# EAGLE library part MOTHER-BOARD-REV5_PIN-CONNECTOR (library Mother-Board-rev5)
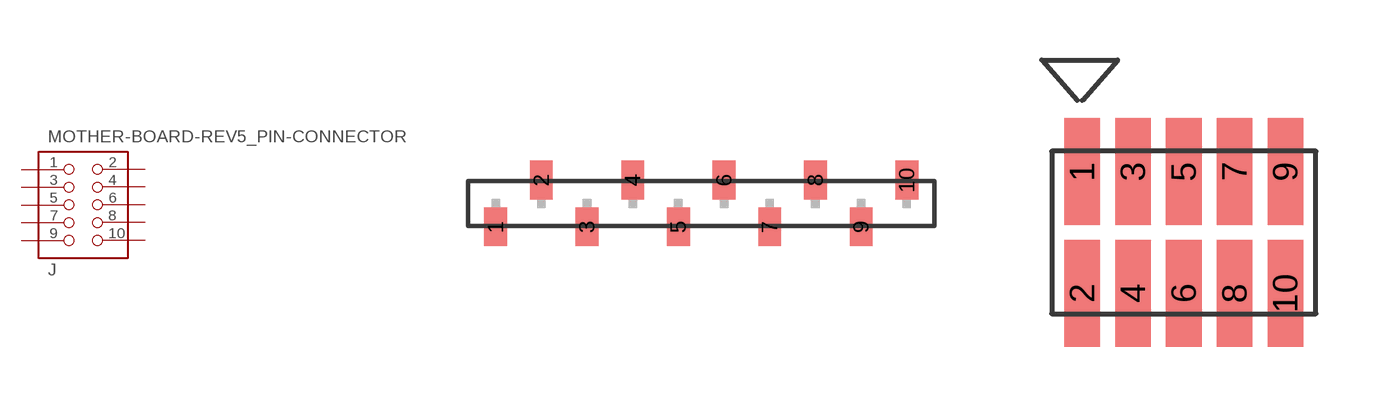
[diagram p4: symbol with the pads of MOTHER-BOARD-REV5_74099-10; footprints MOTHER-BOARD-REV5_74099-10, MOTHER-BOARD-REV5_10-PIN-SMD]

Designator prefix J

## MOTHER-BOARD-REV5_PIN-CONNECTOR  [MOTHER-BOARD-REV5_74099-10]
1  P$1  sup
2  P$2  sup
3  P$3  sup
4  P$4  sup
5  P$5  sup
6  P$6  sup
7  P$7  sup
8  P$8  sup
9  P$9  sup
10  P$10  sup

## MOTHER-BOARD-REV5_PIN-CONNECTOR74089  [MOTHER-BOARD-REV5_10-PIN-SMD]
Pads as for MOTHER-BOARD-REV5_74099-10

## Footprint MOTHER-BOARD-REV5_74099-10 (pad centres in mm)
C-Grid SL Connector vertical SMD, 10 pin
smd 1.27 x 2.15: 1 -11.43,-1.3; 2 -8.89,1.3; 3 -6.35,-1.3; 4 -3.81,1.3; 5 -1.27,-1.3; 6 1.27,1.3; 7 3.81,-1.3; 8 6.35,1.3; 9 8.89,-1.3; 10 11.43,1.3

## Footprint MOTHER-BOARD-REV5_10-PIN-SMD (pad centres in mm)
smd 0.889 x 2.667: 1 -2.54,1.524; 2 -2.54,-1.524; 3 -1.27,1.524; 4 -1.27,-1.524; 5 0,1.524; 6 0,-1.524; 7 1.27,1.524; 8 1.27,-1.524; 9 2.54,1.524; 10 2.54,-1.524